# Altium footprint library ZQ.PcbLib: 8 footprints
Each footprint in its own frame and in the unit in brackets; x right, y up, seen from the top. Pads: shape width x height; smd on the part's side, far side on the other; paste and mask are expansions set on the pad; w line width, h text height; cw(c..) or ccw(c..) is an arc to the next point about the centre after c.
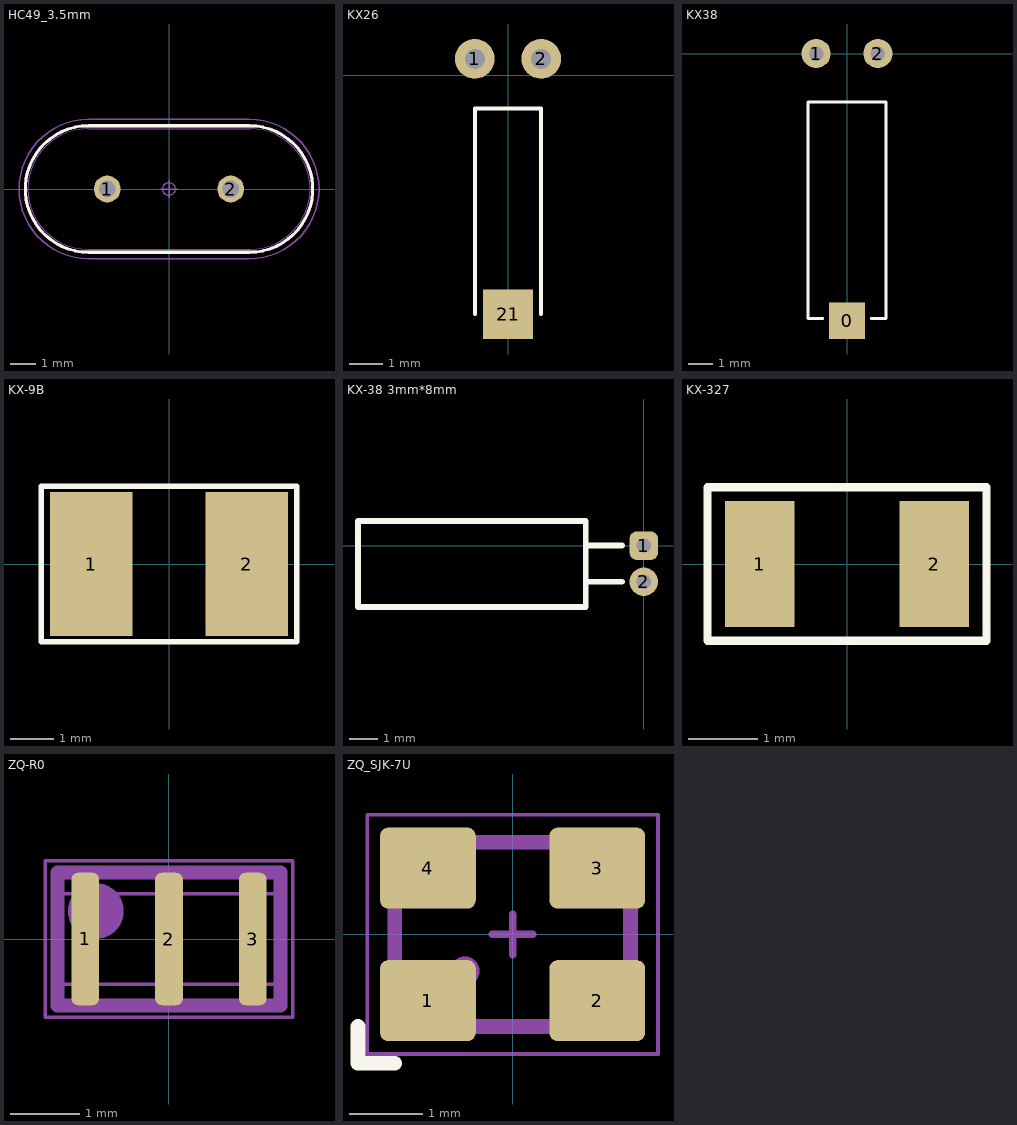
[diagram p0: the footprints below, top view; thin cyan lines are the x and y axes]

## HC49_3.5mm [mm] "Crystal, HC-49; 4.88 mm C X 0.43 mm W 11.175 mm L X 4.75 mm T X 3.50 mm H body"
height 3.5
pads (2):
  round 1.06 hole 0.66 paste-1.06: 1(-2.44,0) 2(2.44,0)
Top Overlay:
  lines w0.12: -3.18,-2.5 cw(c-3.18,0) -3.18,2.5 3.18,2.5 cw(c3.18,0) 3.18,-2.5 -3.18,-2.5
Mechanical 11:
  lines w0.12: -3.18,-2.5 cw(c-3.18,0) -3.18,2.5 3.18,2.5 cw(c3.18,0) 3.18,-2.5 -3.18,-2.5
Mechanical 12:
  circle w0.025: c-2.44,0 r0.23
  circle w0.025: c2.44,0 r0.23
  lines w0.025: -3.213,-2.375 cw(c-3.213,0) -3.213,2.375 3.213,2.375 cw(c3.213,0) 3.213,-2.375 -3.213,-2.375
Mechanical 15:
  circle w0.05: c0,0 r0.25
  lines w0.05: -0.35,0 0.35,0 ; 0,-0.35 0,0.35 ; -3.18,-2.75 cw(c-3.18,0) -3.18,2.75 3.18,2.75 cw(c3.18,0) 3.18,-2.75 -3.18,-2.75
Mechanical 16:
  text ".Designator" at 0,0 h1.2
3D body "XTAL_HC49P488W43L1117T475H350.STEP": height 3.5, standoff -2, extent -5.587,-2.375 5.587,2.375

## KX26 [mm] "clock crystal, 2*6 mm"
pads (3):
  round 1.2 hole 0.6: 1(-1,0.5) 2(1,0.5)
  rect 1.5x1.5 smd: 21(0,-7.2)
Top Overlay:
  lines w0.12: -1,-7.2 -1,-1 1,-1 1,-7.2
3D body: height 0.99, standoff -1, extent -1,-7.2 0.996,-1

## KX38 [mm] "clock crystal, 2*6 mm"
pads (3):
  rect 1.5x1.5 smd: 0(0,-11)
  round 1.2 hole 0.6: 1(-1.27,0) 2(1.27,0)
Top Overlay:
  lines w0.12: -1,-10.9 -1.6,-10.9 -1.6,-2 1.6,-2 1.6,-10.9 1,-10.9
3D body "KX38.STEP": height 3.1, standoff -0.35, extent -1.5,-10.84 1.5,0.176

## KX-9B [mil]
pads (2):
  rect 74x130 smd: 1(-70,0) 2(70,0)
Top Overlay:
  lines w5: -115,-70 -115,70 115,70 115,-70 -115,-70
3D body "CERAMIC SMD CRYSTAL_AMB3B.stp": height 43.31, standoff -1.97, extent -98.42,-62.99 98.43,63

## KX-38 3mm*8mm [mm] "pin_space=1,1mm; d_drill=0,5mm; d_pad=1mm"
height 3
pads (2):
  rrect50% 1x1 hole 0.5 mask+0.07: 1(0,0)
  round 1 hole 0.5 mask+0.07: 2(0,-1.27)
Top Overlay:
  lines w0.2: -2.032,0 -0.762,0 ; -0.762,-1.27 -2.032,-1.27 ; -2.032,-1.27 -2.032,0.865 -10.033,0.865 -10.033,-2.159 -2.032,-2.159 -2.032,-1.27

## KX-327 [mm]
pads (2):
  rect 1x1.8 smd: 1(-1.25,0) 2(1.25,0)
Top Overlay:
  lines w0.12: -2,-1.1 2,-1.1 2,1.1 -2,1.1 -2,-1.1
3D body "KX-327NHT.step": height 0.71, standoff 0, extent -1.6,-0.75 1.6,0.75

## ZQ-R0 [mm]
pads (3):
  rrect50% 0.4x1.9 smd mask+0.06: 1(-1.2,0) 2(0,0) 3(1.2,0)
Top Courtyard:
  lines w0.05: -1.775,-1.125 1.775,-1.125 1.775,1.125 -1.775,1.125 -1.775,-1.125
Top Component Outline:
  lines w0.05: -1.6,-0.65 1.6,-0.65 1.6,0.65 -1.6,0.65 -1.6,-0.65
Top Assembly:
  circle w0.4: c-1.05,0.4 r0.2
  lines w0.2: -1.6,-0.95 -1.6,0.95 1.6,0.95 1.6,-0.95 -1.6,-0.95
Top Designator:
  text ".Designator" at -2.435,-0.25 h1.3
Top Value:
  text ".Comment" at -2.213,-0.335 h1.3
3D body "CSTNE8M00GH5C000R0--3DModel-STEP-56544.STEP": height 0.8, standoff 0, extent -1.6,-0.65 1.6,0.65

## ZQ_SJK-7U [mm]
pads (4):
  rrect20% 1.3x1.1 smd mask+0.06: 1(-1.15,-0.9) 2(1.15,-0.9) 3(1.15,0.9) 4(-1.15,0.9)
Top Overlay:
  lines w0.2: -2.1,-1.25 -2.1,-1.75 -1.6,-1.75
Top Courtyard:
  lines w0.05: -1.975,-1.625 -1.975,1.625 1.975,1.625 1.975,-1.625 -1.975,-1.625
Top Component Center:
  lines w0.1: -0.275,0 0.275,0 ; 0,-0.275 0,0.275
Top Component Outline:
  lines w0.05: -1.6,-1.25 1.6,-1.25 1.6,1.25 -1.6,1.25 -1.6,-1.25
Top Assembly:
  circle w0.2: c-0.65,-0.5 r0.1
  lines w0.2: -1.6,-0.95 -1.3,-1.25 1.3,-1.25 1.6,-0.95 1.6,0.95 1.3,1.25 -1.3,1.25 -1.6,0.95 -1.6,-0.95
Top Designator:
  text ".Designator" at -2.435,-0.25 h1.3
Top Value:
  text ".Comment" at -2.213,-0.335 h1.3
3D body "User Library-SG310_h06.STEP": height 0.6, standoff 0, extent -1.6,-1.25 1.6,1.25